# EAGLE library part JTAG-ISP-AVR-10P (library Connector)
AVR ISP-10 Serial Programming Header
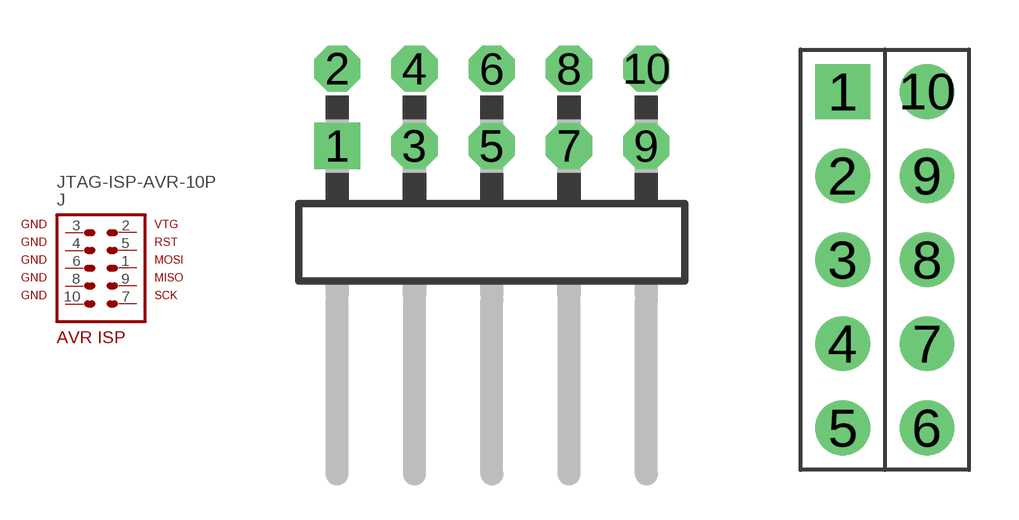
[diagram p27: symbol with the pads of 2X5P-2.54-90D; footprints 2X5P-2.54-90D, 2X5P-2.54]

Designator prefix J

## JTAG-ISP-AVR-10P-90D  [2X5P-2.54-90D]
1  1  pas
2  2  pas
3  3  pas
4  4  pas
5  5  pas
6  6  pas
7  7  pas
8  8  pas
9  9  pas
10  10  pas

## JTAG-ISP-AVR-10P  [2X5P-2.54]
Pads as for 2X5P-2.54-90D

## Footprint 2X5P-2.54-90D (pad centres in mm)
PIN HEADER AVR ISP 10 Pin, 0.1" Right Angle
drill 1.016 square: 1 -5.08,-1.27
drill 1.016 octagon: 2 -5.08,1.27; 3 -2.54,-1.27; 4 -2.54,1.27; 5 0,-1.27; 6 0,1.27; 7 2.54,-1.27; 8 2.54,1.27; 10 5.08,1.27
drill 1.016 pad 1.422 octagon: 9 5.08,-1.27

## Footprint 2X5P-2.54 (pad centres in mm)
drill 0.889 pad 1.651 square: 1 -1.27,5.08
drill 0.889 pad 1.651 round: 2 -1.27,2.54; 3 -1.27,0; 4 -1.27,-2.54; 5 -1.27,-5.08; 6 1.27,-5.08; 7 1.27,-2.54; 8 1.27,0; 9 1.27,2.54; 10 1.27,5.08